# Altium footprint library CAP100x10.PcbLib: 1 footprints
Each footprint in its own frame and in the unit in brackets; x right, y up, seen from the top. Pads: shape width x height; smd on the part's side, far side on the other; paste and mask are expansions set on the pad; w line width, h text height; cw(c..) or ccw(c..) is an arc to the next point about the centre after c.
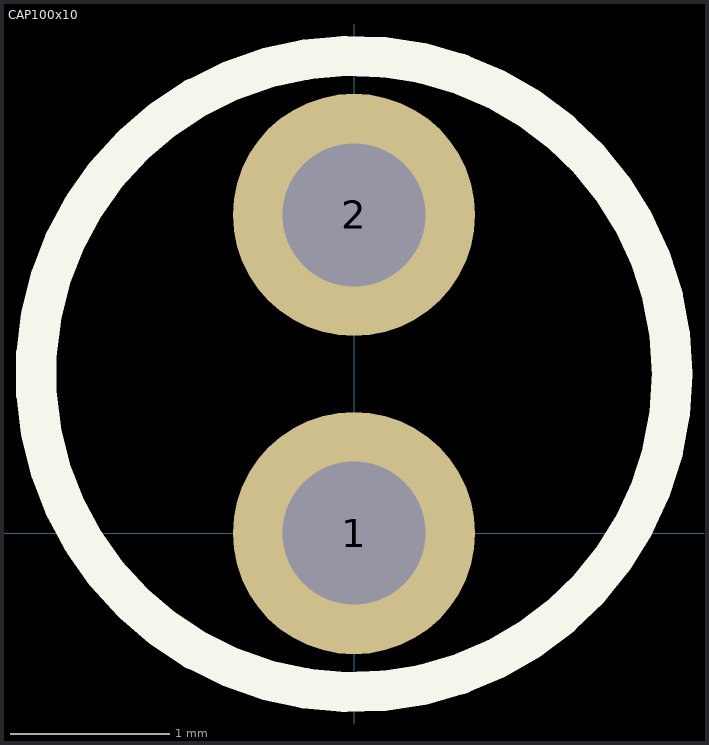
[diagram p0: the footprint, top view; thin cyan lines are the x and y axes]

## CAP100x10 [mil]
pads (2):
  round 60 hole 35.43: 1(0,0) 2(0,78.74)
Top Overlay:
  circle w10: c0,39.37 r78.74